# Altium schematic symbol library Terminal Block 5.SchLib: 1 symbol
Pins are listed as number, name and electrical type; pins without a type are passive.

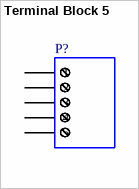
[diagram p0: symbol Terminal Block 5]

## Terminal Block 5
designator P?
Screw terminal block, 5-Way
pins: 1, 2, 3, 4, 5